# Altium schematic symbol library CON3_2.Schlib: 2 symbols
Pins are listed as number, name and electrical type; pins without a type are passive.

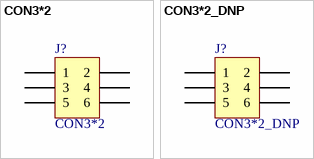
[diagram p0: symbols CON3*2 to CON3*2_DNP]

## CON3*2
designator J?
pins: 1, 2, 3, 4, 5, 6

## CON3*2_DNP
designator J?  (no BOM)
pins: 1, 2, 3, 4, 5, 6